# Altium schematic symbol library Sch_Bosch.SchLib: 1 symbol
Pins are listed as number, name and electrical type; pins without a type are passive.

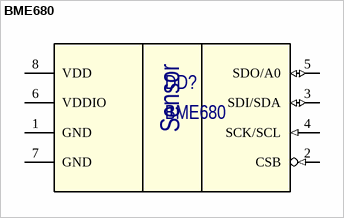
[diagram p0: symbol BME680]

## BME680
designator DD?
Temperature, Humidity, Pressure, Gas Sensor; Manafacturer: Bosch Sensortec; Part Number: BME680
pins: 1 GND (power), 2 CSB (in), 3 SDI/SDA (io), 4 SCK/SCL (in), 5 SDO/A0 (io), 6 VDDIO (power), 7 GND (power), 8 VDD (power)
text: Sensor